# Altium schematic symbol library CAP POL 0.1uF 100V.Schlib: 1 symbol
Pins are listed as number, name and electrical type; pins without a type are passive.

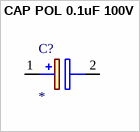
[diagram p0: symbol CAP POL 0.1uF 100V]

## CAP POL 0.1uF 100V
designator C?
0.1µF 100V Aluminum Electrolytic Capacitors, Through-Hole, Radial, Can 2000 Hrs @ 85°C
pins: 1 +, 2 -